# Altium schematic symbol library KEMET_FT0H105ZF.SchLib: 1 symbol
Pins are listed as number, name and electrical type; pins without a type are passive.

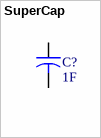
[diagram p0: symbol SuperCap]

## SuperCap
designator C?, comment 1F
Capacitor; PartNumber: EEU-FC1J470; Manufacturer: Panasonic; Published: 23-Sep-2002; PackageReference: CAPR5-4X5; Publisher: Altium Limited; PackageDescription: Capacitor; 2 Leads
simulation model CAP (Capacitor)
signal-integrity model Cap
footprint FT0H105ZF
pins: 1, 2